# Altium schematic symbol library PowerJack.SchLib: 1 symbol
Pins are listed as number, name and electrical type; pins without a type are passive.

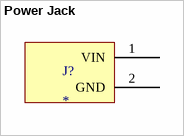
[diagram p0: symbol Power Jack]

## Power Jack
designator J?
footprint PowerJack
pins: 1 VIN, 2 GND